# Altium integrated library RHD2132.IntLib: 1 symbol
Pins are listed as number, name and electrical type; pins without a type are passive.

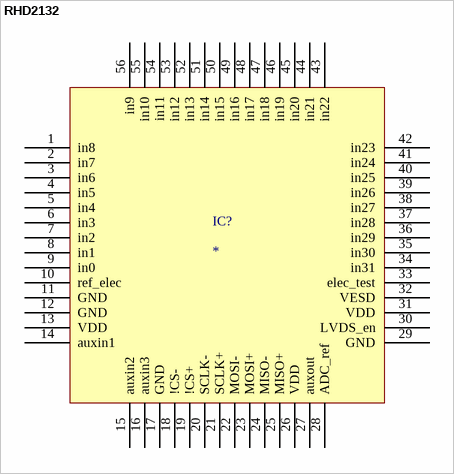
[diagram p0: symbol RHD2132]

## RHD2132
designator IC?
footprint RHD2216 (QFN, 56-Leads, Body 8.00x8.00mm, Pitch 0.50mm, Thermal Pad 6.10x6.10mm, IPC Medium Density)
pins: 1 in8, 2 in7, 3 in6, 4 in5, 5 in4, 6 in3, 7 in2, 8 in1, 9 in0, 10 ref_elec, 11 GND, 12 GND, 13 VDD, 14 auxin1, 15 auxin2, 16 auxin3, 17 GND, 18 !CS-, 19 !CS+, 20 SCLK-, 21 SCLK+, 22 MOSI-, 23 MOSI+, 24 MISO-, 25 MISO+, 26 VDD, 27 auxout, 28 ADC_ref, 29 GND, 30 LVDS_en, 31 VDD, 32 VESD, 33 elec_test, 34 in31, 35 in30, 36 in29, 37 in28, 38 in27, 39 in26, 40 in25, 41 in24, 42 in23, 43 in22, 44 in21, 45 in20, 46 in19, 47 in18, 48 in17, 49 in16, 50 in15, 51 in14, 52 in13, 53 in12, 54 in11, 55 in10, 56 in9